# Altium footprint library Multimeter.PcbLib: 28 footprints (part 1 of 2)
Each footprint in its own frame and in the unit in brackets; x right, y up, seen from the top. Pads: shape width x height; smd on the part's side, far side on the other; paste and mask are expansions set on the pad; w line width, h text height; cw(c..) or ccw(c..) is an arc to the next point about the centre after c.
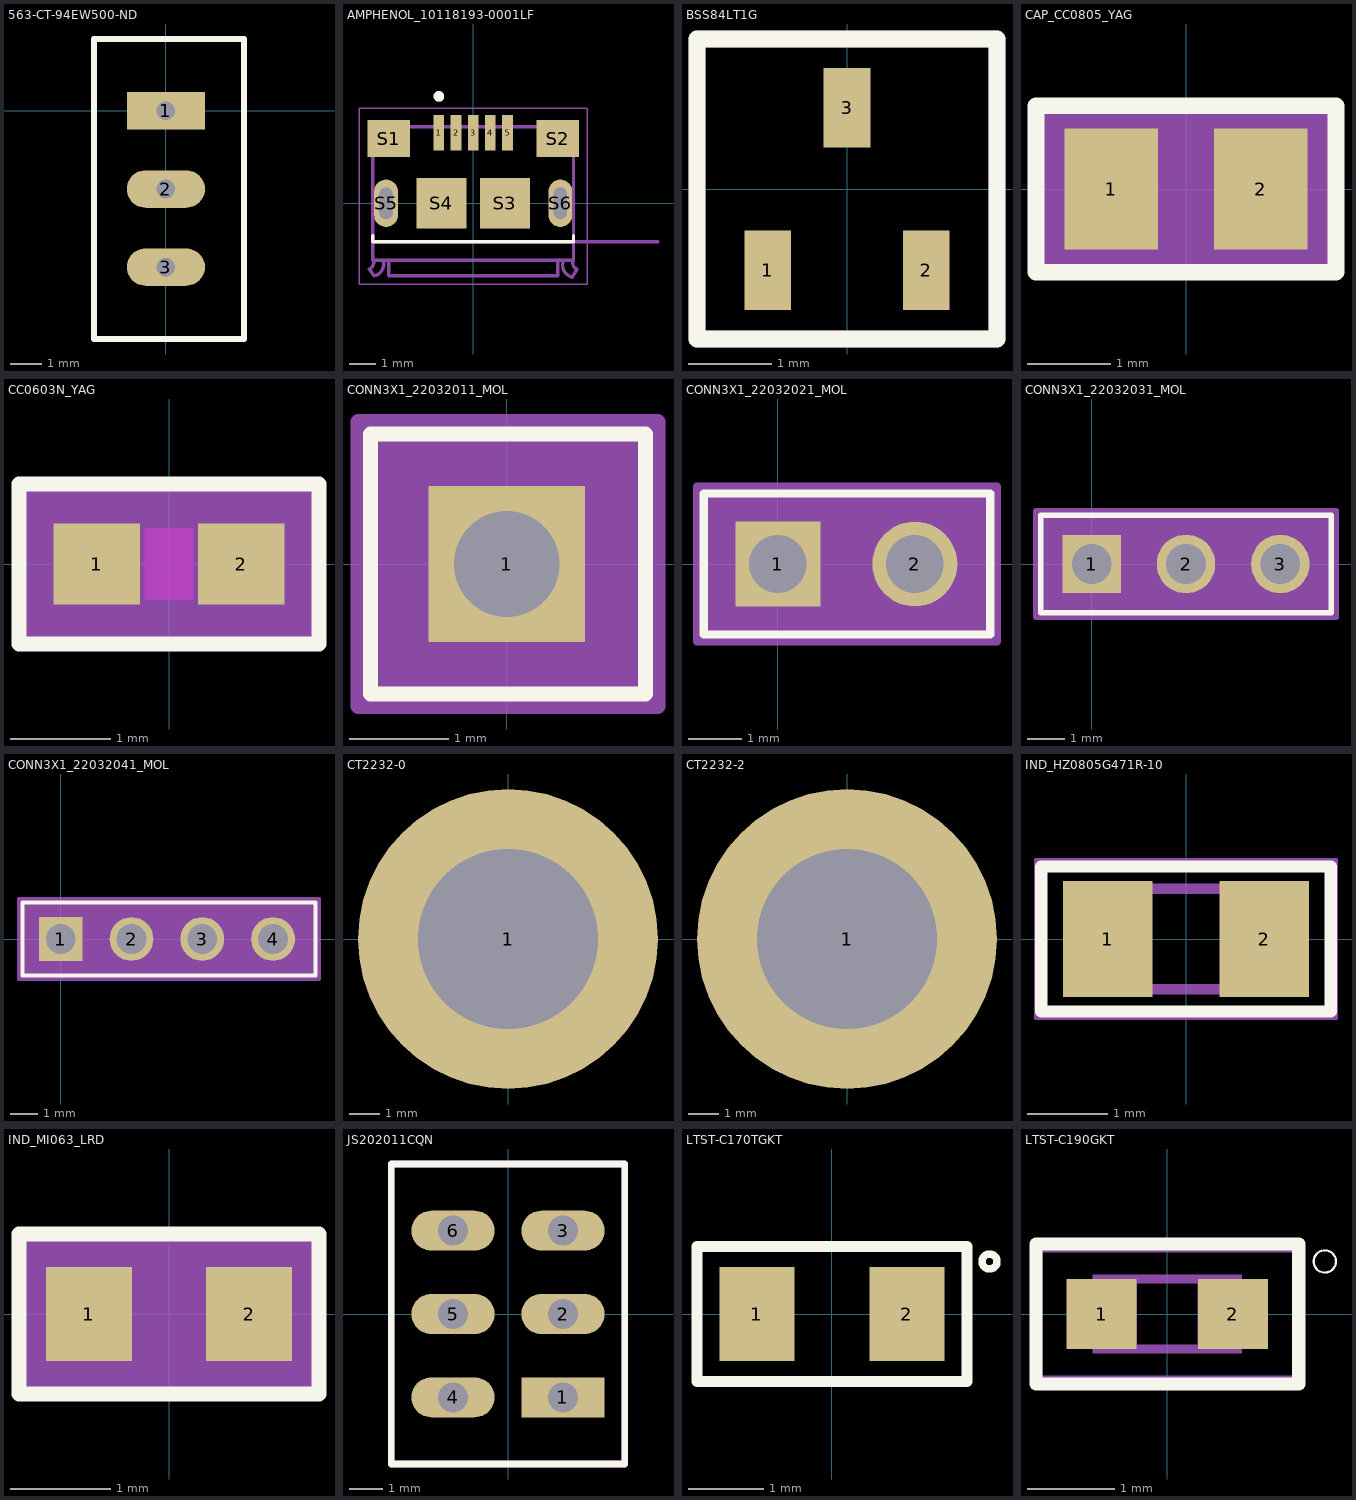
[diagram p0: the footprints below, top view; thin cyan lines are the x and y axes]

## 563-CT-94EW500-ND [mm]
pads (3):
  rect 2.5x1.2 hole 0.6: 1(0,0)
  oval 2.5x1.2 hole 0.6: 2(0,-2.5) 3(0,-5)
Top Overlay:
  lines w0.2: -2.3,-7.3 -2.3,2.3 2.5,2.3 2.5,-7.3 -2.3,-7.3
Top Assembly:
  lines w0.2: -2.3,-7.3 -2.3,2.3 2.5,2.3 2.5,-7.3 -2.3,-7.3
3D body "CT-94EW50O(500).stp": height 11.1, standoff -7.6, extent -2.3,-7.3 2.5,2.3

## AMPHENOL_10118193-0001LF [mm]
height 2.55
pads (11):
  rect 0.4x1.35 smd: 1(-1.3,2.675) 2(-0.65,2.675) 3(0,2.675) 4(0.65,2.675) 5(1.3,2.675)
  rect 1.6x1.4 smd: S1(-3.2,2.45) S2(3.2,2.45)
  rect 1.9x1.9 smd: S3(1.2,0) S4(-1.2,0)
  oval 0.9x1.8 hole 0.5 slot 1.2 at 90 deg: S5(-3.3,0) S6(3.3,0)
Top Overlay:
  circle w0.2: c-1.3,4.05 r0.1
  lines w0.127: -3.8,-1.22 -3.8,-1.45 3.8,-1.45 3.8,-1.22
Mechanical 13:
  circle w0.2: c-1.3,4.05 r0.1
  lines w0.127: -3.93,-2.5 -3.75,-2.75 ; -3.93,-2.5 ccw(c-4.065,-2.235) -3.8,-2.1 ; -3.8,-1.45 3.8,-1.45 ; -3.746,-2.749 ccw(c-3.85,-2.3) -3.401,-2.196 ; -3.2,-2.2 -3.2,-2.75 3.2,-2.75 3.2,-2.2 ; 3.401,-2.198 ccw(c3.875,-2.325) 3.748,-2.799 ; 3.75,-2.8 3.93,-2.5 ; 3.8,-2.1 ccw(c4.065,-2.235) 3.93,-2.5 ; 7,-1.45 3.8,-1.45 ; -3.8,-2.1 -3.8,2.9 3.8,2.9 3.8,-1.45 ; -3.8,-2.1 -3.8,-2.15 3.8,-2.15 3.8,-1.45
  text "PCB END" at 4.85,-1.2 h0.41
Mechanical 15:
  lines w0.05: -4.32,-3.066 4.32,-3.066 4.32,3.6 -4.32,3.6 -4.32,-3.066
3D body "10118193-0001LF.STEP": height 2.87, standoff -0.73, extent -3.928,-2.7 3.928,2.961

## BSS84LT1G [mm]
pads (3):
  rect 0.56x0.95 smd: 1(-0.95,-0.975) 2(0.95,-0.975) 3(0,0.975)
Top Overlay:
  lines w0.2: -1.8,-1.8 -1.8,1.8 -1.362,1.8 -1.287,1.8 -0.65,1.8 1.8,1.8 1.8,-1.8 1.3,-1.8 -1.8,-1.8
Top Assembly:
  lines w0.2: -1.8,-1.8 -1.8,1.8 1.8,1.8 1.8,-1.8 -1.8,-1.8
3D body "SOT23.step": height 0.95, standoff 0, extent -1.45,-1.2 1.45,1.2

## CAP_CC0805_YAG [mil]
pads (2):
  rect 44x57 smd paste+0 mask+0: 1(-35.31,0) 2(35.31,0)
Top Overlay:
  lines w7.87: -70.87,-39.37 70.87,-39.37 70.87,39.37 -70.87,39.37 -70.87,-39.37
Mechanical 13:
  lines w1: -43.31,-28.5 -43.31,28.5 ; -43.31,-28.5 43.31,-28.5 ; -43.31,-28.5 -13.31,-28.5 -13.31,28.5 -43.31,28.5 ; -43.31,-28.5 -43.31,28.5 ; -43.31,28.5 43.31,28.5 ; 43.31,-28.5 43.31,28.5 ; 43.31,-28.5 43.31,28.5 ; 43.31,-28.5 13.31,-28.5 13.31,28.5 43.31,28.5
Mechanical 15:
  region: 67.31,-38.5 -67.31,-38.5 -67.31,38.5 67.31,38.5
  lines w6: -67.31,-38.5 67.31,-38.5 67.31,38.5 -67.31,38.5 -67.31,-38.5
3D body "CAP_CC0805_YAG.step": height 57.01, standoff 0, extent -43.31,-28.5 43.31,28.5

## CC0603N_YAG [mil]
pads (2):
  rect 34x32 smd paste+0 mask+0: 1(-28.5,0) 2(28.5,0)
Top Layer keep-out:
  region: -9.5,-14 -9.5,14 9.5,14 9.5,-14
Top Overlay:
  lines w6: -59.06,-31.5 -59.06,31.5 59.06,31.5 59.06,-31.5 -59.06,-31.5
Top Assembly:
  lines w1.97: -59.06,-31.5 59.06,-31.5 59.06,31.5 -59.06,31.5 -59.06,-31.5
Mechanical 13:
  lines w1: -31.5,-16 -31.5,16 ; -31.5,-16 31.5,-16 ; -31.5,-16 -11.5,-16 -11.5,16 -31.5,16 ; -31.5,-16 -31.5,16 ; -31.5,16 31.5,16 ; 31.5,-16 31.5,16 ; 31.5,-16 31.5,16 ; 31.5,-16 11.5,-16 11.5,16 31.5,16
Mechanical 15:
  region: 55.5,-26 -55.5,-26 -55.5,26 55.5,26
  lines w6: -55.5,-26 55.5,-26 55.5,26 -55.5,26 -55.5,-26
3D body "CC0603N_YAG.step": height 27.99, standoff 0, extent -31.5,-15.98 31.5,15.98

## CONN3X1_22032011_MOL [mil]
pads (1):
  rect 62x62 / inner round 60 / far side rect 62x62 hole 42 paste-99999 mask+0: 1(0,0)
Top Overlay:
  lines w6: -54,-51.5 55,-51.5 55,51.5 -54,51.5 -54,-51.5
Mechanical 13:
  circle w0: c0,-31.5 r10
  lines w1: -49,-46.5 55,-46.5 55,46.5 -49,46.5 -49,-46.5
Mechanical 15:
  region: 60,56.5 -59,56.5 -59,-56.5 60,-56.5
  lines w6: -59,-56.5 -59,56.5 60,56.5 60,-56.5 -59,-56.5
3D body "Pin Header 1x1 TH Pitch 2.54mm.stp": height 373.85, standoff -125.98, extent -50,-48.5 50,51.5
3D body: height 10, standoff 0, extent 0,0 10,10

## CONN3X1_22032021_MOL [mil]
pads (2):
  rect 62x62 / inner round 60 / far side rect 62x62 hole 42 paste-99999 mask+0: 1(0,0)
  round 62 / inner round 60 / far side round 62 hole 42 paste-99999 mask+0: 2(100,0)
Top Overlay:
  lines w6: -54,-51.5 -54,51.5 155,51.5 155,-51.5 -54,-51.5
Mechanical 13:
  circle w0: c0,-31.5 r10
  lines w1: -49,-46.5 -49,46.5 155,46.5 155,-46.5 -49,-46.5
Mechanical 15:
  region: 155,56.5 -59,56.5 -59,-56.5 155,-56.5
  lines w6: -59,-56.5 160,-56.5 160,56.5 -59,56.5 -59,-56.5
3D body: height 10, standoff 0, extent 0,0 10,10
3D body "Pin Header 1x2 TH Pitch 2.54mm.stp": height 373.85, standoff -125.98, extent -50,-48.5 150,51.5

## CONN3X1_22032031_MOL [mil]
pads (3):
  rect 62x62 / inner round 60 / far side rect 62x62 hole 42 paste-99999 mask+0: 1(0,0)
  round 62 / inner round 60 / far side round 62 hole 42 paste-99999 mask+0: 2(100,0) 3(200,0)
Top Overlay:
  lines w6: -54,-51.5 254,-51.5 254,51.5 -54,51.5 -54,-51.5
Mechanical 13:
  circle w0: c0,-31.5 r10
  lines w1: -49,-46.5 249,-46.5 249,46.5 -49,46.5 -49,-46.5
Mechanical 15:
  region: 259,56.5 -59,56.5 -59,-56.5 259,-56.5
  lines w6: -59,-56.5 -59,56.5 259,56.5 259,-56.5 -59,-56.5
3D body "Pin Header 1x3 TH Pitch 2.54mm.stp": height 373.85, standoff -125.98, extent -50,-48.5 250,51.5
3D body: height 10, standoff 0, extent 0,0 10,10

## CONN3X1_22032041_MOL [mil]
pads (4):
  rect 62x62 / inner round 60 / far side rect 62x62 hole 42 paste-99999 mask+0: 1(0,0)
  round 62 / inner round 60 / far side round 62 hole 42 paste-99999 mask+0: 2(100,0) 3(200,0) 4(300,0)
Top Overlay:
  lines w6: -54,-51.5 -54,51.5 360,51.5 360,-51.5 -54,-51.5
Mechanical 13:
  circle w0: c0,-31.5 r10
  lines w1: -49,-46.5 -49,46.5 355,46.5 355,-46.5 -49,-46.5
Mechanical 15:
  region: 365,56.5 -59,56.5 -59,-56.5 365,-56.5
  lines w6: -59,-56.5 365,-56.5 365,56.5 -59,56.5 -59,-56.5
3D body "Pin Header 1x4 TH Pitch 2.54mm.stp": height 373.85, standoff -125.98, extent -50,-48.5 350,51.5
3D body: height 10, standoff 0, extent 0,0 10,10

## CT2232-0 [mm]
pads (1):
  round 10 hole 6: 1(0,0)
3D body "4mm Black Banana Female Socket Jack Mount Connectors.step": height 12.5, standoff -2.5, extent -11.4,-5.5 5.637,5.488

## CT2232-2 [mm]
pads (1):
  round 10 hole 6: 1(0,0)
3D body "4mm Red Banana Female Socket Jack Mount Connectors.step": height 13.5, standoff -1.5, extent -11.4,-5.5 5.637,5.488

## IND_HZ0805G471R-10 [mm]
height 1.05
pads (2):
  rect 1.118x1.448 smd: 1(-0.973,0) 2(0.973,0)
Top Overlay:
  lines w0.152: -1.8,-0.9 1.8,-0.9 1.8,0.9 -1.8,0.9 -1.8,-0.9
Mechanical 13:
  lines w0.127: -1,-0.625 1,-0.625 1,0.625 -1,0.625 -1,-0.625
Mechanical 15:
  lines w0.05: -1.865,-0.985 1.865,-0.985 1.865,0.985 -1.865,0.985 -1.865,-0.985
3D body "HZ0805G471R-10.STEP": height 1.05, standoff 0, extent -1,-0.625 1,0.625

## IND_MI063_LRD [mil]
pads (2):
  rect 34x37 smd paste+0 mask+0: 1(-31.5,0) 2(31.5,0)
Top Overlay:
  lines w6: -59.06,-31.5 -59.06,31.5 59.06,31.5 59.06,-31.5 -59.06,-31.5
Top Assembly:
  lines w1.97: -59.06,-31.5 59.06,-31.5 59.06,31.5 -59.06,31.5 -59.06,-31.5
Mechanical 13:
  lines w1: -34.5,-18.5 -34.5,18.5 ; -34.5,-18.5 34.5,-18.5 ; -34.5,-18.5 -14.5,-18.5 -14.5,18.5 -34.5,18.5 ; -34.5,-18.5 -34.5,18.5 ; -34.5,18.5 34.5,18.5 ; 34.5,-18.5 34.5,18.5 ; 34.5,-18.5 34.5,18.5 ; 34.5,-18.5 14.5,-18.5 14.5,18.5 34.5,18.5
Mechanical 15:
  region: 58.5,-28.5 -58.5,-28.5 -58.5,28.5 58.5,28.5
  lines w6: -58.5,-28.5 58.5,-28.5 58.5,28.5 -58.5,28.5 -58.5,-28.5
3D body "IND_MI063_LRD.step": height 37.01, standoff 0, extent -34.49,-18.5 34.49,18.5

## JS202011CQN [mm]
pads (6):
  rect 2.5x1.2 hole 0.9: 1(1.65,-2.5)
  oval 2.5x1.2 hole 0.9: 2(1.65,0) 3(1.65,2.5) 4(-1.65,-2.5) 5(-1.65,0) 6(-1.65,2.5)
Top Overlay:
  lines w0.2: -3.5,-4.5 3.5,-4.5 3.5,4.5 3.2,4.5 1.8,4.5 0,4.5 -3.5,4.5 -3.5,-4.5
Top Assembly:
  lines w0.2: -3.5,-4.5 3.5,-4.5 3.5,4.5 3.2,4.5 1.8,4.5 0,4.5 -3.5,4.5 -3.5,-4.5
3D body "JS202011CQN.stp": height 5.22, standoff -3.28, extent -1.8,-4.5 1.8,4.5

## LTST-C170TGKT [mm]
pads (2):
  rect 1x1.25 smd: 1(-1,0) 2(1,0)
Top Overlay:
  circle w0.1: c2.1,0.7 r0.1
  lines w0.152: -1.8,-0.9 1.8,-0.9 1.8,0.9 -1.8,0.9 -1.8,-0.9
3D body "LTST-C171GKT.STEP": height 0.8, standoff 0, extent -1,-0.625 1,0.625

## LTST-C190GKT [mm]
pads (2):
  rect 0.8x0.8 smd: 1(-0.75,0) 2(0.75,0)
Top Overlay:
  circle w0.025: c1.8,0.6 r0.127
  lines w0.152: -1.5,-0.8 -1.5,0.8 1.5,0.8 1.5,-0.8 -1.5,-0.8
Mechanical 1:
  circle w0.051: c-0.625,-0.35 r0.075
  region: -0.7,-0.451 -0.851,-0.451 -0.851,-0.25 -0.7,-0.25
  region: -0.55,-0.276 -0.601,-0.276 -0.601,-0.225 -0.55,-0.225
  region: -0.35,-0.45 -0.725,-0.45 -0.725,-0.4 -0.35,-0.4
  region: -0.551,0.25 -0.85,0.25 -0.85,0.451 -0.551,0.451
  region: -0.351,-0.451 -0.576,-0.451 -0.576,0.451 -0.351,0.451
  region: 0.851,-0.45 0.35,-0.45 0.35,-0.251 0.851,-0.251
  region: 0.85,0.25 0.35,0.25 0.35,0.45 0.85,0.45
  region: 0.575,-0.275 0.35,-0.275 0.35,0.275 0.575,0.275
  region: 0.65,-0.275 0.55,-0.275 0.55,-0.175 0.65,-0.175
  region: 0.65,0.175 0.55,0.175 0.55,0.275 0.65,0.275
  lines w0.051: 0.825,-0.275 cw(c0.825,0) 0.825,0.275
  lines w0.102: -0.8,-0.3 ccw(c-0.826,0) -0.8,0.3 ; -0.375,-0.4 0.35,-0.4 ; -0.35,0.4 0.35,0.4
Top Assembly:
  lines w0.05: -1.45,-0.725 1.45,-0.725 1.45,0.725 0.725,0.725 -0.725,0.725 -1.45,0.725 -1.45,-0.725
3D body "step_temp.STEP": height 0.8, standoff 0, extent -0.8,-0.4 0.8,0.4